# Altium schematic symbol library REDFIT_4.Schlib: 1 symbol
Pins are listed as number, name and electrical type; pins without a type are passive.

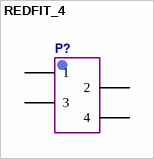
[diagram p0: symbol REDFIT_4]

## REDFIT_4
designator P?  (value not drawn)
pins: 1, 2, 3, 4